# Altium footprint library Battery Holder.PcbLib: 1 footprints
Each footprint in its own frame and in the unit in brackets; x right, y up, seen from the top. Pads: shape width x height; smd on the part's side, far side on the other; paste and mask are expansions set on the pad; w line width, h text height; cw(c..) or ccw(c..) is an arc to the next point about the centre after c.
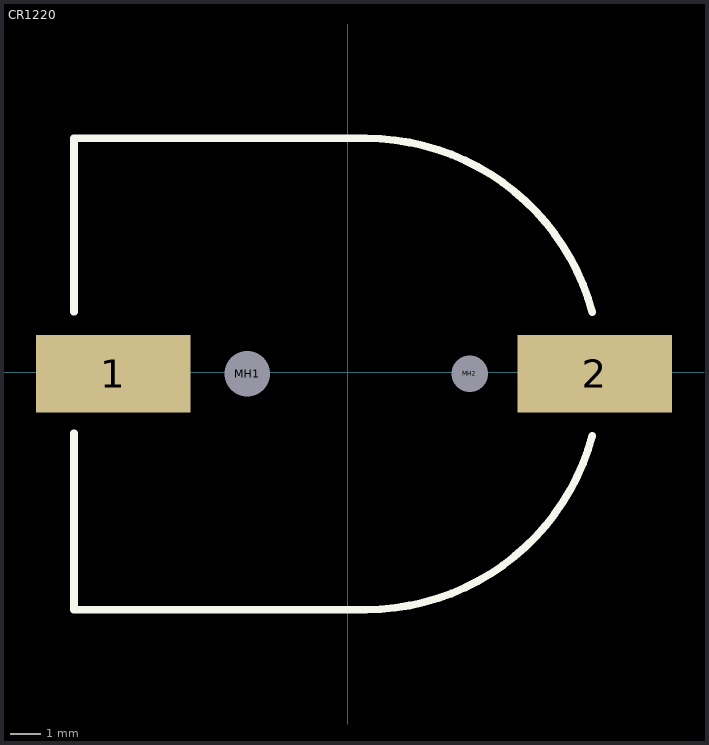
[diagram p0: the footprint, top view; thin cyan lines are the x and y axes]

## CR1220 [mm]
height 5
pads (4):
  rect 5.08x2.54 smd: 1(-7.719,-0.042) 2(8.131,-0.042)
  round 0.9 hole 1.5 unplated: MH1(-3.304,-0.042)
  round 0.5 hole 1.2 unplated: MH2(4.016,-0.042)
Top Overlay:
  lines w0.254: -9,-2 -9,-7.8 0.6,-7.8 ccw(c0.6,-0.1) 8.04,-2.084 ; -9,2 -9,7.7 0.6,7.7 cw(c0.6,0) 8.04,1.984
3D body "ALSRobot-CR1220.STEP": height 4.14, standoff -0.8, extent -9.05,-7.497 9.45,7.5